# Altium footprint library SO-06_WIDE.PcbLib: 1 footprints
Each footprint in its own frame and in the unit in brackets; x right, y up, seen from the top. Pads: shape width x height; smd on the part's side, far side on the other; paste and mask are expansions set on the pad; w line width, h text height; cw(c..) or ccw(c..) is an arc to the next point about the centre after c.
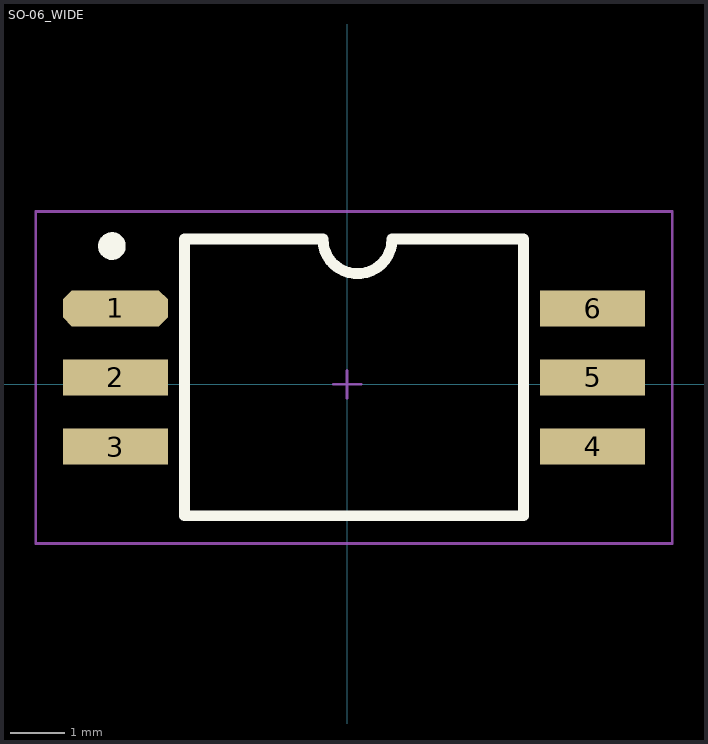
[diagram p0: the footprint, top view; thin cyan lines are the x and y axes]

## SO-06_WIDE [mil]
height 125.2
pads (6):
  oct 76x26 smd: 1(-167.5,55)
  rect 76x26 smd: 2(-167.5,5) 3(-167.5,-45) 4(177.5,-45) 5(177.5,5) 6(177.5,55)
Top Overlay:
  circle w10: c-170,100 r5
  lines w7.87: -117.5,-95 -117.5,105 -17.5,105 ccw(c7.5,105) 32.5,105 127.5,105 127.5,-95 -117.5,-95
Mechanical 15:
  lines w1.97: -10,0 10,0 ; 0,-10 0,10 ; -225,-115 -225,125 235,125 235,-115 -225,-115
3D body: height 125.2, standoff 0, extent -117.52,-95.02 127.52,105.02